# EAGLE library part DS8_LM13700 (library ds8)
National Dual OTA with buffers.
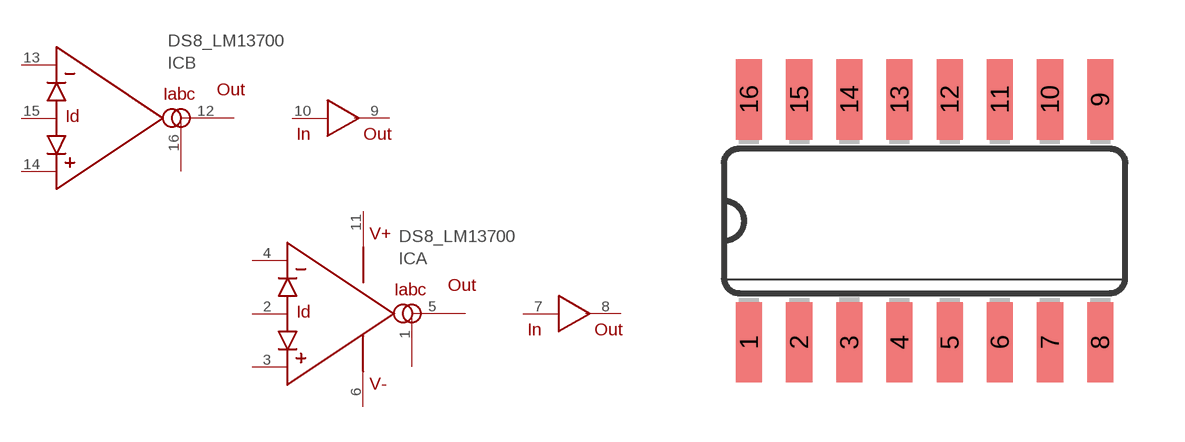
[diagram p0: symbol with the pads of DS8_SO16; footprint DS8_SO16]

Designator prefix IC; gates A=DS8_OTA_WD_N B=DS8_OTA_WD_N G$3=DS8_OTA_BUF G$4=DS8_OTA_BUF G$5=DS8_OTA_WD_PWR

## DS8_LM13700M  [DS8_SO16]
1  A:IABC
2  A:ID
3  A:+IN
4  A:-IN
5  A:OUT
6  G$5:V-
7  G$3:IN
8  G$3:OUT
9  G$4:OUT
10  G$4:IN
11  G$5:V+
12  B:OUT
13  B:-IN
14  B:+IN
15  B:ID
16  B:IABC

## Footprint DS8_SO16 (pad centres in mm)
Small Outline Package 16
smd 0.66 x 2.032: 1 -4.445,-3.073; 2 -3.175,-3.073; 3 -1.905,-3.073; 4 -0.635,-3.073; 5 0.635,-3.073; 6 1.905,-3.073; 7 3.175,-3.073; 8 4.445,-3.073; 9 4.445,3.073; 10 3.175,3.073; 11 1.905,3.073; 12 0.635,3.073; 13 -0.635,3.073; 14 -1.905,3.073; 15 -3.175,3.073; 16 -4.445,3.073